# Altium schematic symbol library robot2.SchLib: 6 symbols
Pins are listed as number, name and electrical type; pins without a type are passive.

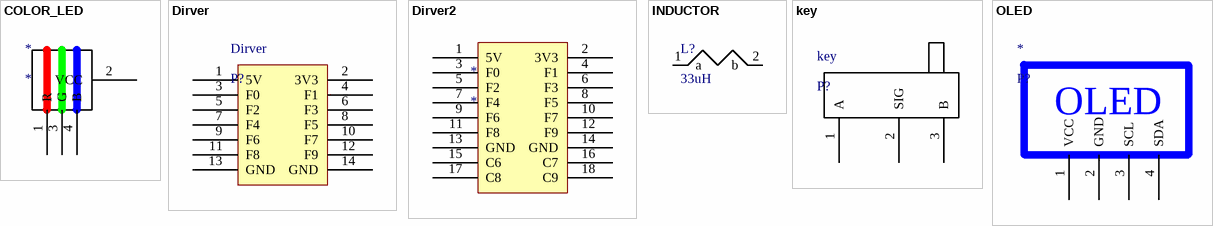
[diagram p0: symbols COLOR_LED to OLED]

## COLOR_LED
designator *
footprint COLOR_LED
pins: 1 R, 2 VCC, 3 G, 4 B

## Dirver
designator Dirver, comment P?
footprint Dirver
pins: 1 5V, 2 3V3, 3 F0, 4 F1, 5 F2, 6 F3, 7 F4, 8 F5, 9 F6, 10 F7, 11 F8, 12 F9, 13 GND, 14 GND

## Dirver2
designator *
footprint DIRVER2
pins: 1 5V, 2 3V3, 3 F0, 4 F1, 5 F2, 6 F3, 7 F4, 8 F5, 9 F6, 10 F7, 11 F8, 12 F9, 13 GND, 14 GND, 15 C6, 16 C7, 17 C8, 18 C9

## INDUCTOR
designator L?, comment 33uH
footprint INDUCTOR
pins: 1 a, 2 b

## key
designator key, comment P?
footprint KEY
pins: 1 A, 2 SIG, 3 B

## OLED
designator *, comment P?
footprint OLED
pins: 1 VCC, 2 GND, 3 SCL, 4 SDA